# Altium schematic symbol library U_TPS631000DRLR.SchLib: 1 symbol
Pins are listed as number, name and electrical type; pins without a type are passive.

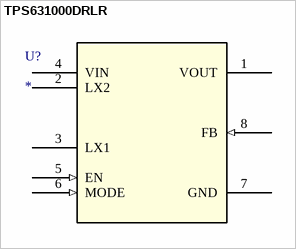
[diagram p0: symbol TPS631000DRLR]

## TPS631000DRLR
designator U?
Non-Isolated PoL Module DC DC Converter 1 Output 1.2 ~ 5.3V 2A 1.6V - 5.5V Input; Mfr_Name: Texas Instruments; RefDes: RefDes; Type: Type
footprint TPS631000DRLR_TEX
pins: 1 VOUT (power), 2 LX2 (power), 3 LX1 (power), 4 VIN (power), 5 EN (in), 6 MODE (in), 7 GND (power), 8 FB (in)